# EAGLE library part SEMTECH_SMF05C (library AQ_sensor_MRC)
TVS Diode Array
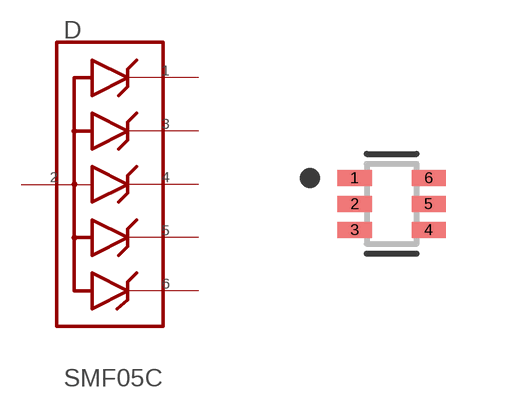
[diagram p4: symbol with the pads of SEMTECH_SMF05C_0; footprint SEMTECH_SMF05C_0]

Designator prefix D

## SEMTECH_SMF05CSEMTECH_SMF05C_0_0 (CENTROID_NOT_SPECIFIED: No; DATASHEET: http://www.semtech.com/images/datasheet/smf05c.pdf; DIGIKEY_DESCRIPTION: DIODE TVS DIODE 5VWM 12.5VC SC70-6; DIGIKEY_PART_NUMBER: SMF05CCT-ND; JUNCTION_CAPACITANCE: 130pF max; LEAD_FREE: yes; MANUFACTURER_PRODUCT_PAGE: http://www.semtech.com/apps/product.php?pn=SMF05C; MF: Semtech; MFG_PACKAGE_IDENT: SC70-6L; MOUSER_PART_NUMBER: 947-SMF05C.TCT; MPN: SMF05C; PACKAGE: SC-70-6; PREFIX: D; REVERSE_STAND-OFF_VOLTAGE: 5V; ROHS: yes; TEMPERATURE_RANGE_HIGH: +125°C; TEMPERATURE_RANGE_LOW: -55°C)  [SEMTECH_SMF05C_0]
1  1_CATHODE
2  ANODE
3  2_CATHODE
4  3_CATHODE
5  4_CATHODE
6  5_CATHODE

## Footprint SEMTECH_SMF05C_0 (pad centres in mm)
TVS Diode Array
smd 0.85 x 0.4: 1 -0.925,0.65; 2 -0.925,0; 3 -0.925,-0.65; 4 0.925,-0.65; 5 0.925,0; 6 0.925,0.65